# Altium schematic symbol library DIYSynth.SchLib: 5 symbols
Pins are listed as number, name and electrical type; pins without a type are passive.

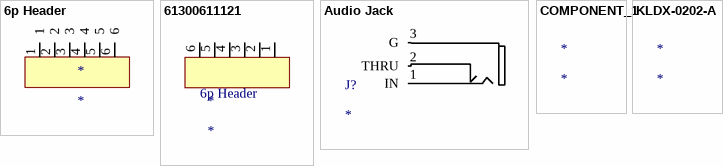
[diagram p0: symbols 6p Header to KLDX-0202-A]

## 6p Header
designator *
pins: 1, 2, 3, 4, 5, 6

## 61300611121
designator *  Manufacturer Part Number: 6p Header
WURTH ELEKTRONIK - 61300611121 - Pin Header, Board-to-Board, 2.54 mm, 1 Rows, 6 Contacts, Through Hole, WR-PHD Series; Manufacturer: Wurth Electronics; Number of Contacts: 6; Gender: Male; Connector Type: Male Pin; Current Rating: 3A; Voltage Rating: 250V; Pitch: 0.1inch; Supplier 1: Digi-Key; Supplier Part Number 1: 732-5319-ND; RoHS: Yes; Category: Headers and Wire Housings; Stock 1: 37609; Pricing 1: 1=0.33000, 10=0.27900, 25=0.23200, 50=0.19400, 100=0.17600, 1000=0.16000 (USD); Mount: Through Hole; Contact Plating: Gold; Contact Material: Copper Alloy,Copper; Color: Black; Housing Material: PBT; Min Operating Temperature: -40°C; Max Operating Temperature: 125°C; Number of Rows: 1; Packaging: Bulk; Termination: Through Hole; Number of Positions: 6; Series: WR-PHD; Contact Type: Male Pin; Contact Gender: Male; Contact Mating Length: 0.236inch; REACH SVHC: Unknown; Lead Free: Lead Free; ComponentLink1URL: http://www.mouser.com/ds/2/445/6130xx11121-538006.pdf?src-supplier=Mouser; ComponentLink1Description: http://www.mouser.com/ds/2/445/6130xx11121-538006.pdf?src-supplier=Mouser; ComponentLink2URL: https://katalog.we-online.de/em/datasheet/6130xx11121.pdf?src-supplier=Digi-Key; ComponentLink2Description: https://katalog.we-online.de/em/datasheet/6130xx11121.pdf?src-supplier=Digi-Key; ComponentLink3URL: http://www.farnell.com/cad/1737268.pdf?src-supplier=Element14; ComponentLink3Description: http://www.farnell.com/cad/1737268.pdf?src-supplier=Element14; Parameter 1: *; Parameter 2: *; Parameter 3: *
pins: 1, 2, 3, 4, 5, 6

## Audio Jack
designator J?
footprint Audio Jack
footprint Audio Jack
footprint Audio Jack
pins: 1 IN, 2 THRU, 3 G

## COMPONENT_1
designator *

## KLDX-0202-A
designator *
KYCON - KLDX-0202-A - DC Power Connector, Jack, 3.5 A, 2 mm, PCB Mount, Through Hole; Gender: Female; Voltage Rating: 24V; Number of Contacts: 2; Current Rating: 3.5A; Insulation Resistance: 100MR; Supplier 1: Digi-Key; Supplier Part Number 1: 2092-KLDX-0202-A-ND; Manufacturer: Kycon; Manufacturer Part Number: KLDX-0202-A; RoHS: Yes; Category: Connectors; Stock 1: 9321; Pricing 1: 1=0.54000, 10=0.50600, 25=0.45560, 50=0.40480, 100=0.38790, 250=0.35420, 500=0.33734, 1000=0.27831, 2500=0.25300 (USD); Mount: Through Hole; Contact Plating: Tin; Color: Black; Contact Material: Brass; Housing Material: PBT; Min Operating Temperature: -25°C; Max Operating Temperature: 85°C; Orientation: Right Angle; Termination: Solder; Series: KLDX; Packaging: Bag; Package Quantity: 500; Connector Type: Power; Contact Gender: Female; Voltage Rating (DC): 24V; Radiation Hardening: No; RoHS Compliant: Yes; Flammability Rating: UL94 V-0; ComponentLink1URL: http://www.mouser.com/ds/2/222/KLDX_0202_LT-334784.pdf?src-supplier=Mouser; ComponentLink1Description: http://www.mouser.com/ds/2/222/KLDX_0202_LT-334784.pdf?src-supplier=Mouser; ComponentLink2URL: http://domino2.kycon.com/catalog_PDF/KLDX_0202.pdf?src-supplier=Avnet; ComponentLink2Description: http://domino2.kycon.com/catalog_PDF/KLDX_0202.pdf?src-supplier=Avnet; ComponentLink3URL: http://domino2.kycon.com/catalog_PDF/KLDX_0202.pdf?src-supplier=Avnet+Europe; ComponentLink3Description: http://domino2.kycon.com/catalog_PDF/KLDX_0202.pdf?src-supplier=Avnet+Europe